# EAGLE library part SN74HCS264DR (library pimoroni-ics)
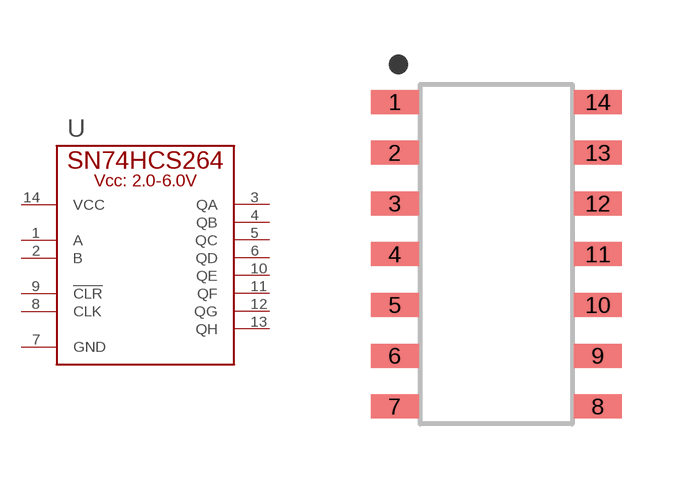
[diagram p167: symbol with the pads of SOP14-150MIL; footprint SOP14-150MIL]

Designator prefix U

## SN74HCS264DR  [SOP14-150MIL]
1  A
2  B
3  QA
4  QB
5  QC
6  QD
7  GND
8  CLK
9  !CLR
10  QE
11  QF
12  QG
13  QH
14  VCC

## Footprint SOP14-150MIL (pad centres in mm)
smd 1.2 x 0.6: 1 -2.54,3.81; 2 -2.54,2.54; 3 -2.54,1.27; 4 -2.54,0; 5 -2.54,-1.27; 6 -2.54,-2.54; 7 -2.54,-3.81; 8 2.54,-3.81; 9 2.54,-2.54; 10 2.54,-1.27; 11 2.54,0; 12 2.54,1.27; 13 2.54,2.54; 14 2.54,3.81